# EAGLE library part PTMA40XXXX (library ic)
PTMA40xxxx: Isolated DC/DC converters (Texas Intstruments) 36...75V in, 10W - PTMA403033: 3.3V - PTMA403050: 5V - PTMA403120: 12V
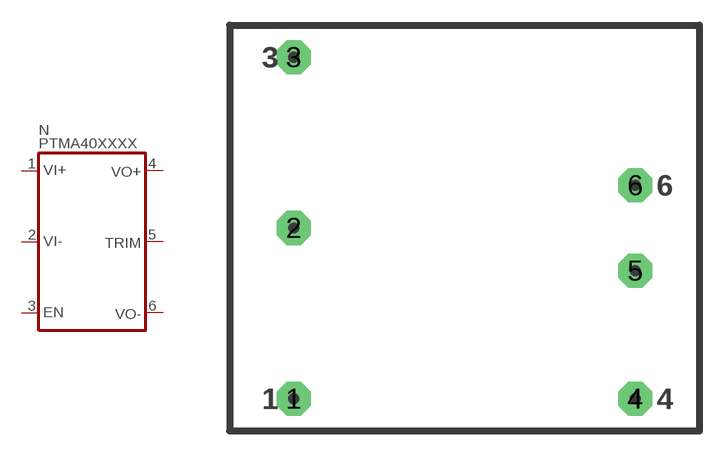
[diagram p125: symbol with the pads of PTMA40XXXX; footprint PTMA40XXXX]

Designator prefix N

## PTMA40XXXX  [PTMA40XXXX]
1  VI+  in
2  VI-  in
3  EN  in
4  VO+  out
5  TRIM
6  VO-  out

## Footprint PTMA40XXXX (pad centres in mm)
PTMA40xxxx: DC/DC converters (Texas Instruments)
drill 0.813 pad 2.032 octagon: 1 -10.16,-10.16; 2 -10.16,0; 3 -10.16,10.16; 4 10.16,-10.16; 5 10.16,-2.54; 6 10.16,2.54